# EAGLE library part ADAFRUIT-FONA (library debauer_modules)
PIN HEADER
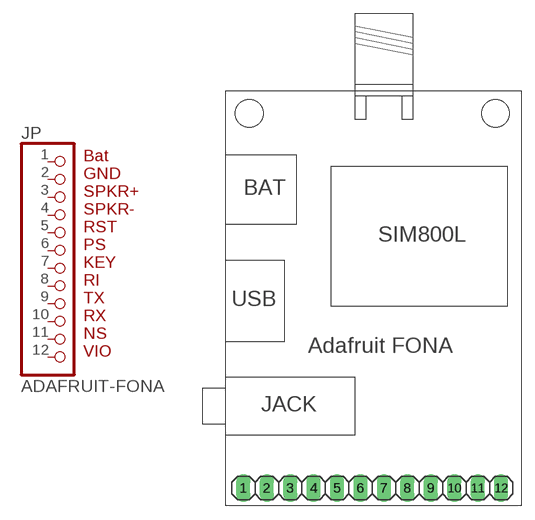
[diagram p1: symbol with the pads of ADAFRUITFONA; footprint ADAFRUITFONA]

Designator prefix JP

## ADAFRUIT-FONA  [ADAFRUITFONA]
1  1  pas
2  2  pas
3  3  pas
4  4  pas
5  5  pas
6  6  pas
7  7  pas
8  8  pas
9  9  pas
10  10  pas
11  11  pas
12  12  pas

## Footprint ADAFRUITFONA (pad centres in mm)
PIN HEADER
drill 1.016 long: 1 1.905,1.905; 2 4.445,1.905; 3 6.985,1.905; 4 9.525,1.905; 5 12.065,1.905; 6 14.605,1.905; 7 17.145,1.905; 8 19.685,1.905; 9 22.225,1.905; 10 24.765,1.905; 11 27.305,1.905; 12 29.845,1.905
hole 3 at 2.54,42.545
hole 3 at 29.21,42.545